# Altium schematic symbol library KEMET Tantalum Capacitor.SchLib: 1 symbol
Pins are listed as number, name and electrical type; pins without a type are passive.

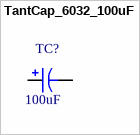
[diagram p0: symbol TantCap_6032_100uF]

## TantCap_6032_100uF
designator TC?  value 100uF
CAP TANT 100UF 10V 10% LOESR SMD; ComponentLink1Description: Manufacturer Link; ComponentLink1URL: http://www.kemet.com; ComponentLink2Description: Datasheet; ComponentLink2URL: http://www.kemet.com/kemet/web/homepage/kechome.nsf/vapubfiles/B45197A_SpeedPower.pdf/$file/B45197A_SpeedPower.pdf; Code_JEITA: 6032; Supplier 1: Digi-Key; Supplier Part Number 1: 495-1528-1-ND
footprint 6032
footprint 6032
pins: 1, 2